# Altium integrated library RJMG163218101NR.IntLib: 1 symbol
Pins are listed as number, name and electrical type; pins without a type are passive.

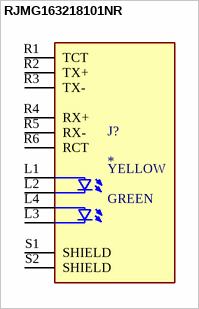
[diagram p0: symbol RJMG163218101NR]

## RJMG163218101NR
designator J?
RJ Magnetic (RJMG) - 1x1, Input Output Connectors, 10/100,SHIELDED; MF: Amphenol; MP: RJMG163218101NR; SnapEDA_Link: https://www.snapeda.com/parts/RJMG163218101NR/Amphenol/view-part/?ref=snap; Package: None; Value: *; Check_prices: https://www.snapeda.com/parts/RJMG163218101NR/Amphenol/view-part/?ref=eda
footprint AMPHENOL_RJMG163218101NR
pins: L1 LED1+, L2 LED1-, L3 LED2-, L4 LED2+, R1 TCT, R2 TX+, R3 TX-, R4 RX+, R5 RX-, R6 RCT, S1 SHIELD, S2 SHIELD
text: YELLOW; GREEN